# EAGLE library part LM386 (library ncat)
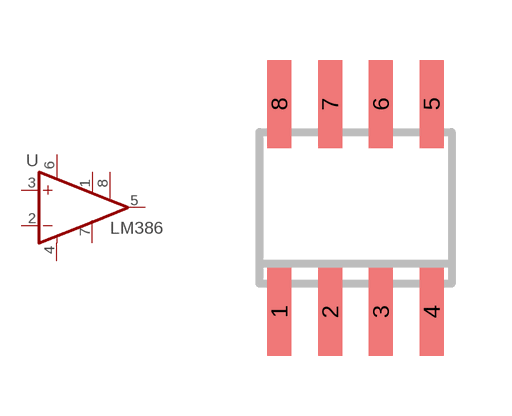
[diagram p3: symbol with the pads of IC-SO8; footprint IC-SO8]

Designator prefix -

## LM386  [IC-SO8]
1  GAIN  pas
2  -IN  in
3  +IN  in
4  GND  pwr
5  OUT  out
6  VS  pwr
7  BYPASS  pas
8  GAIN  pas

## Footprint IC-SO8 (pad centres in mm)
smd 0.6 x 2.2: 1 -1.905,-2.6; 2 -0.635,-2.6; 3 0.635,-2.6; 4 1.905,-2.6; 5 1.905,2.6; 6 0.635,2.6; 7 -0.635,2.6; 8 -1.905,2.6